# EAGLE library part HEADER,PIN,2X3 (library 0_MyLIB)
PIN HEADER
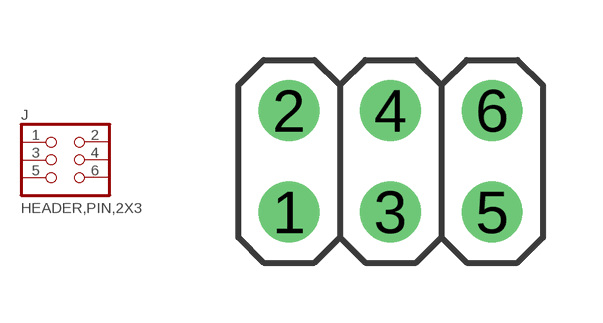
[diagram p9: symbol with the pads of HEADER,PIN,02X03; footprint HEADER,PIN,02X03]

Designator prefix J

## HEADER,PIN,2X3  [HEADER,PIN,02X03]
1  1  pas
2  2  pas
3  3  pas
4  4  pas
5  5  pas
6  6  pas

## Footprint HEADER,PIN,02X03 (pad centres in mm)
PIN HEADER
drill 1.016: 1 -2.54,-1.27; 2 -2.54,1.27; 3 0,-1.27; 4 0,1.27; 5 2.54,-1.27; 6 2.54,1.27